# EAGLE library part MAX232 (library work)
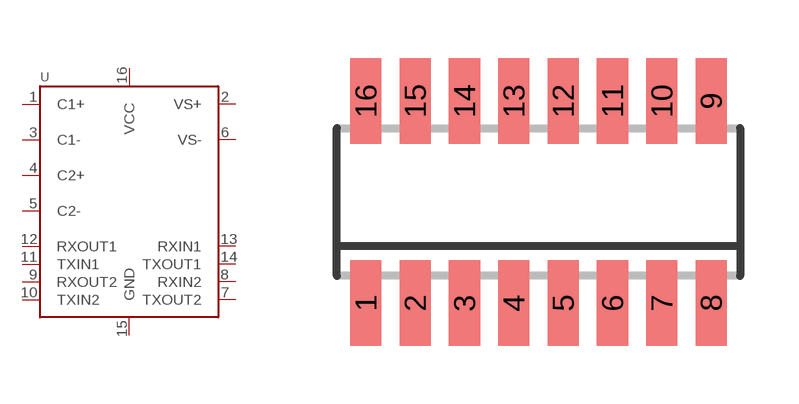
[diagram p12: symbol with the pads of SOIC16; footprint SOIC16]

Designator prefix -

## MAX232  [SOIC16]
1  C1+
2  VS+
3  C1-
4  C2+
5  C2-
6  VS-
7  TXOUT2
8  RXIN2
9  RXOUT2
10  TXIN2
11  TXIN1
12  RXOUT1
13  RXIN1
14  TXOUT1
15  GND
16  VCC

## Footprint SOIC16 (pad centres in mm)
smd 0.8 x 2.2: 1 -4.445,-2.6; 2 -3.175,-2.6; 3 -1.905,-2.6; 4 -0.635,-2.6; 5 0.635,-2.6; 6 1.905,-2.6; 7 3.175,-2.6; 8 4.445,-2.6; 9 4.445,2.6; 10 3.175,2.6; 11 1.905,2.6; 12 0.635,2.6; 13 -0.635,2.6; 14 -1.905,2.6; 15 -3.175,2.6; 16 -4.445,2.6